# Altium footprint library CONN_HDR_2.54MM_ST.PcbLib: 159 footprints (part 12 of 13)
Each footprint in its own frame and in the unit in brackets; x right, y up, seen from the top. Pads: shape width x height; smd on the part's side, far side on the other; paste and mask are expansions set on the pad; w line width, h text height; cw(c..) or ccw(c..) is an arc to the next point about the centre after c.
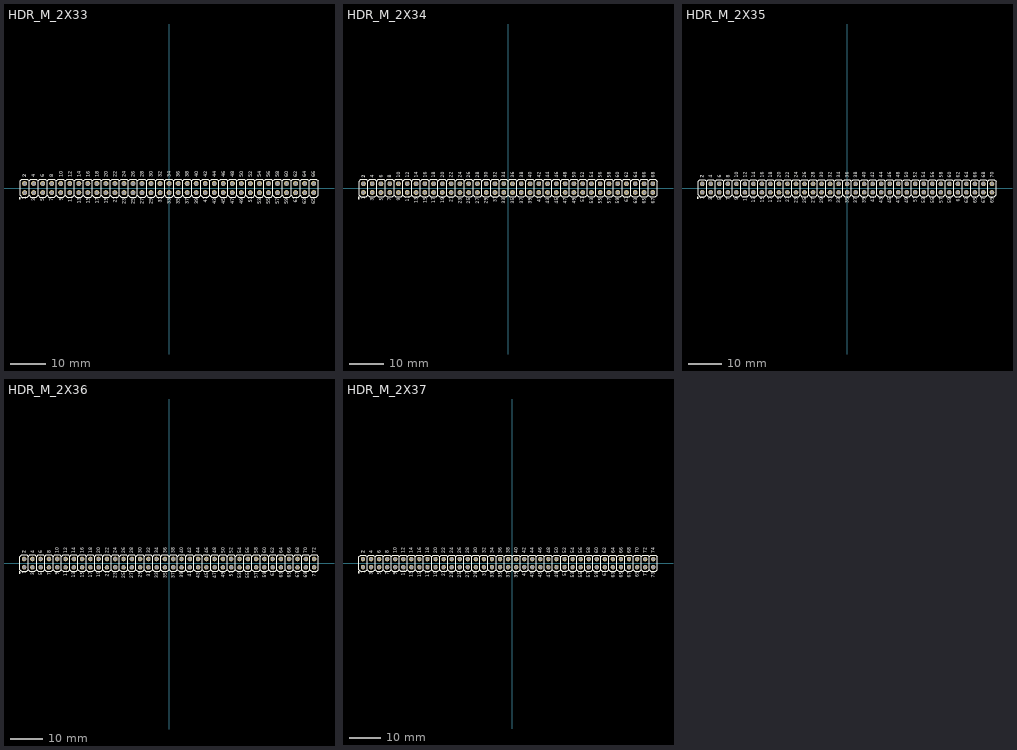
[diagram p11: the footprints below, top view; thin cyan lines are the x and y axes]

## HDR_M_2X33 [mm] "Male Header 2X33 with 2.54 mm Pitch"
pads (66):
  round 1.4 / inner round 1.4 / far side oval 1.4x2.2 hole 1: 1(-40.64,-1.27) 2(-40.64,1.27) 3(-38.1,-1.27) 4(-38.1,1.27) 5(-35.56,-1.27) 6(-35.56,1.27) 7(-33.02,-1.27) 8(-33.02,1.27) 9(-30.48,-1.27) 10(-30.48,1.27) 11(-27.94,-1.27) 12(-27.94,1.27) 13(-25.4,-1.27) 14(-25.4,1.27) 15(-22.86,-1.27) 16(-22.86,1.27) 17(-20.32,-1.27) 18(-20.32,1.27) 19(-17.78,-1.27) 20(-17.78,1.27) 21(-15.24,-1.27) 22(-15.24,1.27) 23(-12.7,-1.27) 24(-12.7,1.27) 25(-10.16,-1.27) 26(-10.16,1.27) 27(-7.62,-1.27) 28(-7.62,1.27) 29(-5.08,-1.27) 30(-5.08,1.27) 31(-2.54,-1.27) 32(-2.54,1.27) 33(0,-1.27) 34(0,1.27) 35(2.54,-1.27) 36(2.54,1.27) 37(5.08,-1.27) 38(5.08,1.27) 39(7.62,-1.27) 40(7.62,1.27) 41(10.16,-1.27) 42(10.16,1.27) 43(12.7,-1.27) 44(12.7,1.27) 45(15.24,-1.27) 46(15.24,1.27) 47(17.78,-1.27) 48(17.78,1.27) 49(20.32,-1.27) 50(20.32,1.27) 51(22.86,-1.27) 52(22.86,1.27) 53(25.4,-1.27) 54(25.4,1.27) 55(27.94,-1.27) 56(27.94,1.27) 57(30.48,-1.27) 58(30.48,1.27) 59(33.02,-1.27) 60(33.02,1.27) 61(35.56,-1.27) 62(35.56,1.27) 63(38.1,-1.27) 64(38.1,1.27) 65(40.64,-1.27) 66(40.64,1.27)
TopOverlay:
  drawing of 233 lines, arcs and shapes, not listed
  text "1" at -40.132,-3.253 h1
  text "2" at -40.132,3.048 h1
  text "2" at -40.132,3.048 h1
  text "1" at -40.132,-3.253 h1
  text "4" at -37.592,3.048 h1
  text "3" at -37.592,-3.682 h1
  text "6" at -35.052,3.048 h1
  text "5" at -35.052,-3.682 h1
  text "8" at -32.512,3.048 h1
  text "7" at -32.512,-3.682 h1
  text "10" at -29.972,3.048 h1
  text "9" at -29.972,-3.634 h1
  text "12" at -27.432,3.048 h1
  text "11" at -27.432,-3.986 h1
  text "14" at -24.892,3.048 h1
  text "13" at -24.892,-4.415 h1
  text "16" at -22.352,3.048 h1
  text "15" at -22.352,-4.415 h1
  text "18" at -19.812,3.048 h1
  text "17" at -19.812,-4.415 h1
  text "20" at -17.272,3.048 h1
  text "19" at -17.272,-4.367 h1
  text "22" at -14.732,3.048 h1
  text "21" at -14.732,-4.144 h1
  text "24" at -12.192,3.048 h1
  text "23" at -12.192,-4.572 h1
  text "26" at -9.652,3.048 h1
  text "25" at -9.652,-4.572 h1
  text "28" at -7.112,3.048 h1
  text "27" at -7.112,-4.572 h1
  text "30" at -4.572,3.048 h1
  text "29" at -4.572,-4.524 h1
  text "32" at -2.032,3.048 h1
  text "31" at -2.032,-4.144 h1
  text "34" at 0.508,3.048 h1
  text "33" at 0.508,-4.572 h1
  text "36" at 3.048,3.048 h1
  text "35" at 3.048,-4.572 h1
  text "38" at 5.588,3.048 h1
  text "37" at 5.588,-4.572 h1
  text "40" at 8.128,3.048 h1
  text "39" at 8.128,-4.524 h1
  text "42" at 10.668,3.048 h1
  text "41" at 10.668,-4.144 h1
  text "44" at 13.208,3.048 h1
  text "43" at 13.208,-4.572 h1
  text "46" at 15.748,3.048 h1
  text "45" at 15.748,-4.572 h1
  text "48" at 18.288,3.048 h1
  text "47" at 18.288,-4.572 h1
  text "50" at 20.828,3.048 h1
  text "49" at 20.828,-4.524 h1
  text "52" at 23.368,3.048 h1
  text "51" at 23.368,-4.144 h1
  text "54" at 25.908,3.048 h1
  text "53" at 25.908,-4.572 h1
  text "56" at 28.448,3.048 h1
  text "55" at 28.448,-4.572 h1
  text "58" at 30.988,3.048 h1
  text "57" at 30.988,-4.572 h1
  text "60" at 33.528,3.048 h1
  text "59" at 33.528,-4.524 h1
  text "62" at 36.068,3.048 h1
  text "61" at 36.068,-4.091 h1
  text "64" at 38.608,3.048 h1
  text "63" at 38.608,-4.52 h1
  text "66" at 41.148,3.048 h1
  text "65" at 41.148,-4.52 h1
3D body "PIN.STEP": height 8.43, standoff -2.49, extent -41.91,0 -39.37,2.54
3D body "PIN_mid.STEP": height 8.43, standoff -2.49, extent 39.37,-2.54 41.91,0
3D body "PIN_mid.STEP": height 8.43, standoff -2.49, extent 36.83,-2.54 39.37,0
3D body "PIN_mid.STEP": height 8.43, standoff -2.49, extent 34.29,-2.54 36.83,0
3D body "PIN_mid.STEP": height 8.43, standoff -2.49, extent 31.75,-2.54 34.29,0
3D body "PIN_mid.STEP": height 8.43, standoff -2.49, extent 29.21,-2.54 31.75,0
3D body "PIN_mid.STEP": height 8.43, standoff -2.49, extent 26.67,-2.54 29.21,0
3D body "PIN_mid.STEP": height 8.43, standoff -2.49, extent 24.13,-2.54 26.67,0
3D body "PIN_mid.STEP": height 8.43, standoff -2.49, extent 21.59,-2.54 24.13,0
3D body "PIN_mid.STEP": height 8.43, standoff -2.49, extent 19.05,-2.54 21.59,0
3D body "PIN_mid.STEP": height 8.43, standoff -2.49, extent 16.51,-2.54 19.05,0
3D body "PIN_mid.STEP": height 8.43, standoff -2.49, extent 13.97,-2.54 16.51,0
3D body "PIN_mid.STEP": height 8.43, standoff -2.49, extent 11.43,-2.54 13.97,0
3D body "PIN_mid.STEP": height 8.43, standoff -2.49, extent 8.89,-2.54 11.43,0
3D body "PIN_mid.STEP": height 8.43, standoff -2.49, extent 6.35,-2.54 8.89,0
3D body "PIN_mid.STEP": height 8.43, standoff -2.49, extent 3.81,-2.54 6.35,0
3D body "PIN_mid.STEP": height 8.43, standoff -2.49, extent 1.27,-2.54 3.81,0
3D body "PIN_mid.STEP": height 8.43, standoff -2.49, extent -1.27,-2.54 1.27,0
3D body "PIN_mid.STEP": height 8.43, standoff -2.49, extent -3.81,-2.54 -1.27,0
3D body "PIN_mid.STEP": height 8.43, standoff -2.49, extent -6.35,-2.54 -3.81,0
3D body "PIN_mid.STEP": height 8.43, standoff -2.49, extent -8.89,-2.54 -6.35,0
3D body "PIN_mid.STEP": height 8.43, standoff -2.49, extent -11.43,-2.54 -8.89,0
3D body "PIN_mid.STEP": height 8.43, standoff -2.49, extent -13.97,-2.54 -11.43,0
3D body "PIN_mid.STEP": height 8.43, standoff -2.49, extent -16.51,-2.54 -13.97,0
3D body "PIN_mid.STEP": height 8.43, standoff -2.49, extent -19.05,-2.54 -16.51,0
3D body "PIN_mid.STEP": height 8.43, standoff -2.49, extent -21.59,-2.54 -19.05,0
3D body "PIN_mid.STEP": height 8.43, standoff -2.49, extent -24.13,-2.54 -21.59,0
3D body "PIN_mid.STEP": height 8.43, standoff -2.49, extent -26.67,-2.54 -24.13,0
3D body "PIN_mid.STEP": height 8.43, standoff -2.49, extent -29.21,-2.54 -26.67,0
3D body "PIN_mid.STEP": height 8.43, standoff -2.49, extent -31.75,-2.54 -29.21,0
3D body "PIN_mid.STEP": height 8.43, standoff -2.49, extent -34.29,-2.54 -31.75,0
3D body "PIN_mid.STEP": height 8.43, standoff -2.49, extent -36.83,-2.54 -34.29,0
3D body "PIN_mid.STEP": height 8.43, standoff -2.49, extent -39.37,-2.54 -36.83,0
3D body "PIN_mid.STEP": height 8.43, standoff -2.49, extent -39.37,0 -36.83,2.54
3D body "PIN_mid.STEP": height 8.43, standoff -2.49, extent 39.37,0 41.91,2.54
3D body "PIN_mid.STEP": height 8.43, standoff -2.49, extent 36.83,0 39.37,2.54
3D body "PIN_mid.STEP": height 8.43, standoff -2.49, extent 34.29,0 36.83,2.54
3D body "PIN_mid.STEP": height 8.43, standoff -2.49, extent 31.75,0 34.29,2.54
3D body "PIN_mid.STEP": height 8.43, standoff -2.49, extent 29.21,0 31.75,2.54
3D body "PIN_mid.STEP": height 8.43, standoff -2.49, extent 26.67,0 29.21,2.54
3D body "PIN_mid.STEP": height 8.43, standoff -2.49, extent 24.13,0 26.67,2.54
3D body "PIN_mid.STEP": height 8.43, standoff -2.49, extent 21.59,0 24.13,2.54
3D body "PIN_mid.STEP": height 8.43, standoff -2.49, extent 19.05,0 21.59,2.54
3D body "PIN_mid.STEP": height 8.43, standoff -2.49, extent 16.51,0 19.05,2.54
3D body "PIN_mid.STEP": height 8.43, standoff -2.49, extent 13.97,0 16.51,2.54
3D body "PIN_mid.STEP": height 8.43, standoff -2.49, extent 11.43,0 13.97,2.54
3D body "PIN_mid.STEP": height 8.43, standoff -2.49, extent 8.89,0 11.43,2.54
3D body "PIN_mid.STEP": height 8.43, standoff -2.49, extent 6.35,0 8.89,2.54
3D body "PIN_mid.STEP": height 8.43, standoff -2.49, extent 3.81,0 6.35,2.54
3D body "PIN_mid.STEP": height 8.43, standoff -2.49, extent 1.27,0 3.81,2.54
3D body "PIN_mid.STEP": height 8.43, standoff -2.49, extent -1.27,0 1.27,2.54
3D body "PIN_mid.STEP": height 8.43, standoff -2.49, extent -3.81,0 -1.27,2.54
3D body "PIN_mid.STEP": height 8.43, standoff -2.49, extent -6.35,0 -3.81,2.54
3D body "PIN_mid.STEP": height 8.43, standoff -2.49, extent -8.89,0 -6.35,2.54
3D body "PIN_mid.STEP": height 8.43, standoff -2.49, extent -11.43,0 -8.89,2.54
3D body "PIN_mid.STEP": height 8.43, standoff -2.49, extent -13.97,0 -11.43,2.54
3D body "PIN_mid.STEP": height 8.43, standoff -2.49, extent -16.51,0 -13.97,2.54
3D body "PIN_mid.STEP": height 8.43, standoff -2.49, extent -19.05,0 -16.51,2.54
3D body "PIN_mid.STEP": height 8.43, standoff -2.49, extent -21.59,0 -19.05,2.54
3D body "PIN_mid.STEP": height 8.43, standoff -2.49, extent -24.13,0 -21.59,2.54
3D body "PIN_mid.STEP": height 8.43, standoff -2.49, extent -26.67,0 -24.13,2.54
3D body "PIN_mid.STEP": height 8.43, standoff -2.49, extent -29.21,0 -26.67,2.54
3D body "PIN_mid.STEP": height 8.43, standoff -2.49, extent -31.75,0 -29.21,2.54
3D body "PIN_mid.STEP": height 8.43, standoff -2.49, extent -34.29,0 -31.75,2.54
3D body "PIN_mid.STEP": height 8.43, standoff -2.49, extent -36.83,0 -34.29,2.54
3D body "PIN.STEP": height 8.43, standoff -2.49, extent -41.91,-2.54 -39.37,0

## HDR_M_2X34 [mm] "Male Header 2X34 with 2.54 mm Pitch"
pads (68):
  round 1.4 / inner round 1.4 / far side oval 1.4x2.2 hole 1: 1(-41.91,-1.27) 2(-41.91,1.27) 3(-39.37,-1.27) 4(-39.37,1.27) 5(-36.83,-1.27) 6(-36.83,1.27) 7(-34.29,-1.27) 8(-34.29,1.27) 9(-31.75,-1.27) 10(-31.75,1.27) 11(-29.21,-1.27) 12(-29.21,1.27) 13(-26.67,-1.27) 14(-26.67,1.27) 15(-24.13,-1.27) 16(-24.13,1.27) 17(-21.59,-1.27) 18(-21.59,1.27) 19(-19.05,-1.27) 20(-19.05,1.27) 21(-16.51,-1.27) 22(-16.51,1.27) 23(-13.97,-1.27) 24(-13.97,1.27) 25(-11.43,-1.27) 26(-11.43,1.27) 27(-8.89,-1.27) 28(-8.89,1.27) 29(-6.35,-1.27) 30(-6.35,1.27) 31(-3.81,-1.27) 32(-3.81,1.27) 33(-1.27,-1.27) 34(-1.27,1.27) 35(1.27,-1.27) 36(1.27,1.27) 37(3.81,-1.27) 38(3.81,1.27) 39(6.35,-1.27) 40(6.35,1.27) 41(8.89,-1.27) 42(8.89,1.27) 43(11.43,-1.27) 44(11.43,1.27) 45(13.97,-1.27) 46(13.97,1.27) 47(16.51,-1.27) 48(16.51,1.27) 49(19.05,-1.27) 50(19.05,1.27) 51(21.59,-1.27) 52(21.59,1.27) 53(24.13,-1.27) 54(24.13,1.27) 55(26.67,-1.27) 56(26.67,1.27) 57(29.21,-1.27) 58(29.21,1.27) 59(31.75,-1.27) 60(31.75,1.27) 61(34.29,-1.27) 62(34.29,1.27) 63(36.83,-1.27) 64(36.83,1.27) 65(39.37,-1.27) 66(39.37,1.27) 67(41.91,-1.27) 68(41.91,1.27)
TopOverlay:
  drawing of 240 lines, arcs and shapes, not listed
  text "1" at -41.402,-3.253 h1
  text "2" at -41.402,3.048 h1
  text "2" at -41.402,3.048 h1
  text "1" at -41.402,-3.253 h1
  text "4" at -38.862,3.048 h1
  text "3" at -38.862,-3.682 h1
  text "6" at -36.322,3.048 h1
  text "5" at -36.322,-3.682 h1
  text "8" at -33.782,3.048 h1
  text "7" at -33.782,-3.682 h1
  text "10" at -31.242,3.048 h1
  text "9" at -31.242,-3.634 h1
  text "12" at -28.702,3.048 h1
  text "11" at -28.702,-3.986 h1
  text "14" at -26.162,3.048 h1
  text "13" at -26.162,-4.415 h1
  text "16" at -23.622,3.048 h1
  text "15" at -23.622,-4.415 h1
  text "18" at -21.082,3.048 h1
  text "17" at -21.082,-4.415 h1
  text "20" at -18.542,3.048 h1
  text "19" at -18.542,-4.367 h1
  text "22" at -16.002,3.048 h1
  text "21" at -16.002,-4.144 h1
  text "24" at -13.462,3.048 h1
  text "23" at -13.462,-4.572 h1
  text "26" at -10.922,3.048 h1
  text "25" at -10.922,-4.572 h1
  text "28" at -8.382,3.048 h1
  text "27" at -8.382,-4.572 h1
  text "30" at -5.842,3.048 h1
  text "29" at -5.842,-4.524 h1
  text "32" at -3.302,3.048 h1
  text "31" at -3.302,-4.144 h1
  text "34" at -0.762,3.048 h1
  text "33" at -0.762,-4.572 h1
  text "36" at 1.778,3.048 h1
  text "35" at 1.778,-4.572 h1
  text "38" at 4.318,3.048 h1
  text "37" at 4.318,-4.572 h1
  text "40" at 6.858,3.048 h1
  text "39" at 6.858,-4.524 h1
  text "42" at 9.398,3.048 h1
  text "41" at 9.398,-4.144 h1
  text "44" at 11.938,3.048 h1
  text "43" at 11.938,-4.572 h1
  text "46" at 14.478,3.048 h1
  text "45" at 14.478,-4.572 h1
  text "48" at 17.018,3.048 h1
  text "47" at 17.018,-4.572 h1
  text "50" at 19.558,3.048 h1
  text "49" at 19.558,-4.524 h1
  text "52" at 22.098,3.048 h1
  text "51" at 22.098,-4.144 h1
  text "54" at 24.638,3.048 h1
  text "53" at 24.638,-4.572 h1
  text "56" at 27.178,3.048 h1
  text "55" at 27.178,-4.572 h1
  text "58" at 29.718,3.048 h1
  text "57" at 29.718,-4.572 h1
  text "60" at 32.258,3.048 h1
  text "59" at 32.258,-4.524 h1
  text "62" at 34.798,3.048 h1
  text "61" at 34.798,-4.091 h1
  text "64" at 37.338,3.048 h1
  text "63" at 37.338,-4.52 h1
  text "66" at 39.878,3.048 h1
  text "65" at 39.878,-4.52 h1
  text "68" at 42.418,3.048 h1
  text "67" at 42.418,-4.52 h1
3D body "PIN.STEP": height 8.43, standoff -2.49, extent 40.64,-2.54 43.18,0
3D body "PIN.STEP": height 8.43, standoff -2.49, extent 40.64,0 43.18,2.54
3D body "PIN.STEP": height 8.43, standoff -2.49, extent -43.18,0 -40.64,2.54
3D body "PIN_mid.STEP": height 8.43, standoff -2.49, extent 38.1,-2.54 40.64,0
3D body "PIN_mid.STEP": height 8.43, standoff -2.49, extent 35.56,-2.54 38.1,0
3D body "PIN_mid.STEP": height 8.43, standoff -2.49, extent 33.02,-2.54 35.56,0
3D body "PIN_mid.STEP": height 8.43, standoff -2.49, extent 30.48,-2.54 33.02,0
3D body "PIN_mid.STEP": height 8.43, standoff -2.49, extent 27.94,-2.54 30.48,0
3D body "PIN_mid.STEP": height 8.43, standoff -2.49, extent 25.4,-2.54 27.94,0
3D body "PIN_mid.STEP": height 8.43, standoff -2.49, extent 22.86,-2.54 25.4,0
3D body "PIN_mid.STEP": height 8.43, standoff -2.49, extent 20.32,-2.54 22.86,0
3D body "PIN_mid.STEP": height 8.43, standoff -2.49, extent 17.78,-2.54 20.32,0
3D body "PIN_mid.STEP": height 8.43, standoff -2.49, extent 15.24,-2.54 17.78,0
3D body "PIN_mid.STEP": height 8.43, standoff -2.49, extent 12.7,-2.54 15.24,0
3D body "PIN_mid.STEP": height 8.43, standoff -2.49, extent 10.16,-2.54 12.7,0
3D body "PIN_mid.STEP": height 8.43, standoff -2.49, extent 7.62,-2.54 10.16,0
3D body "PIN_mid.STEP": height 8.43, standoff -2.49, extent 5.08,-2.54 7.62,0
3D body "PIN_mid.STEP": height 8.43, standoff -2.49, extent 2.54,-2.54 5.08,0
3D body "PIN_mid.STEP": height 8.43, standoff -2.49, extent 0,-2.54 2.54,0
3D body "PIN_mid.STEP": height 8.43, standoff -2.49, extent -2.54,-2.54 0,0
3D body "PIN_mid.STEP": height 8.43, standoff -2.49, extent -5.08,-2.54 -2.54,0
3D body "PIN_mid.STEP": height 8.43, standoff -2.49, extent -7.62,-2.54 -5.08,0
3D body "PIN_mid.STEP": height 8.43, standoff -2.49, extent -10.16,-2.54 -7.62,0
3D body "PIN_mid.STEP": height 8.43, standoff -2.49, extent -12.7,-2.54 -10.16,0
3D body "PIN_mid.STEP": height 8.43, standoff -2.49, extent -15.24,-2.54 -12.7,0
3D body "PIN_mid.STEP": height 8.43, standoff -2.49, extent -17.78,-2.54 -15.24,0
3D body "PIN_mid.STEP": height 8.43, standoff -2.49, extent -20.32,-2.54 -17.78,0
3D body "PIN_mid.STEP": height 8.43, standoff -2.49, extent -22.86,-2.54 -20.32,0
3D body "PIN_mid.STEP": height 8.43, standoff -2.49, extent -25.4,-2.54 -22.86,0
3D body "PIN_mid.STEP": height 8.43, standoff -2.49, extent -27.94,-2.54 -25.4,0
3D body "PIN_mid.STEP": height 8.43, standoff -2.49, extent -30.48,-2.54 -27.94,0
3D body "PIN_mid.STEP": height 8.43, standoff -2.49, extent -33.02,-2.54 -30.48,0
3D body "PIN_mid.STEP": height 8.43, standoff -2.49, extent -35.56,-2.54 -33.02,0
3D body "PIN_mid.STEP": height 8.43, standoff -2.49, extent -38.1,-2.54 -35.56,0
3D body "PIN_mid.STEP": height 8.43, standoff -2.49, extent -40.64,-2.54 -38.1,0
3D body "PIN_mid.STEP": height 8.43, standoff -2.49, extent -40.64,0 -38.1,2.54
3D body "PIN_mid.STEP": height 8.43, standoff -2.49, extent 38.1,0 40.64,2.54
3D body "PIN_mid.STEP": height 8.43, standoff -2.49, extent 35.56,0 38.1,2.54
3D body "PIN_mid.STEP": height 8.43, standoff -2.49, extent 33.02,0 35.56,2.54
3D body "PIN_mid.STEP": height 8.43, standoff -2.49, extent 30.48,0 33.02,2.54
3D body "PIN_mid.STEP": height 8.43, standoff -2.49, extent 27.94,0 30.48,2.54
3D body "PIN_mid.STEP": height 8.43, standoff -2.49, extent 25.4,0 27.94,2.54
3D body "PIN_mid.STEP": height 8.43, standoff -2.49, extent 22.86,0 25.4,2.54
3D body "PIN_mid.STEP": height 8.43, standoff -2.49, extent 20.32,0 22.86,2.54
3D body "PIN_mid.STEP": height 8.43, standoff -2.49, extent 17.78,0 20.32,2.54
3D body "PIN_mid.STEP": height 8.43, standoff -2.49, extent 15.24,0 17.78,2.54
3D body "PIN_mid.STEP": height 8.43, standoff -2.49, extent 12.7,0 15.24,2.54
3D body "PIN_mid.STEP": height 8.43, standoff -2.49, extent 10.16,0 12.7,2.54
3D body "PIN_mid.STEP": height 8.43, standoff -2.49, extent 7.62,0 10.16,2.54
3D body "PIN_mid.STEP": height 8.43, standoff -2.49, extent 5.08,0 7.62,2.54
3D body "PIN_mid.STEP": height 8.43, standoff -2.49, extent 2.54,0 5.08,2.54
3D body "PIN_mid.STEP": height 8.43, standoff -2.49, extent 0,0 2.54,2.54
3D body "PIN_mid.STEP": height 8.43, standoff -2.49, extent -2.54,0 0,2.54
3D body "PIN_mid.STEP": height 8.43, standoff -2.49, extent -5.08,0 -2.54,2.54
3D body "PIN_mid.STEP": height 8.43, standoff -2.49, extent -7.62,0 -5.08,2.54
3D body "PIN_mid.STEP": height 8.43, standoff -2.49, extent -10.16,0 -7.62,2.54
3D body "PIN_mid.STEP": height 8.43, standoff -2.49, extent -12.7,0 -10.16,2.54
3D body "PIN_mid.STEP": height 8.43, standoff -2.49, extent -15.24,0 -12.7,2.54
3D body "PIN_mid.STEP": height 8.43, standoff -2.49, extent -17.78,0 -15.24,2.54
3D body "PIN_mid.STEP": height 8.43, standoff -2.49, extent -20.32,0 -17.78,2.54
3D body "PIN_mid.STEP": height 8.43, standoff -2.49, extent -22.86,0 -20.32,2.54
3D body "PIN_mid.STEP": height 8.43, standoff -2.49, extent -25.4,0 -22.86,2.54
3D body "PIN_mid.STEP": height 8.43, standoff -2.49, extent -27.94,0 -25.4,2.54
3D body "PIN_mid.STEP": height 8.43, standoff -2.49, extent -30.48,0 -27.94,2.54
3D body "PIN_mid.STEP": height 8.43, standoff -2.49, extent -33.02,0 -30.48,2.54
3D body "PIN_mid.STEP": height 8.43, standoff -2.49, extent -35.56,0 -33.02,2.54
3D body "PIN_mid.STEP": height 8.43, standoff -2.49, extent -38.1,0 -35.56,2.54
3D body "PIN.STEP": height 8.43, standoff -2.49, extent -43.18,-2.54 -40.64,0

## HDR_M_2X35 [mm] "Male Header 2X35 with 2.54 mm Pitch"
pads (70):
  round 1.4 / inner round 1.4 / far side oval 1.4x2.2 hole 1: 1(-43.18,-1.27) 2(-43.18,1.27) 3(-40.64,-1.27) 4(-40.64,1.27) 5(-38.1,-1.27) 6(-38.1,1.27) 7(-35.56,-1.27) 8(-35.56,1.27) 9(-33.02,-1.27) 10(-33.02,1.27) 11(-30.48,-1.27) 12(-30.48,1.27) 13(-27.94,-1.27) 14(-27.94,1.27) 15(-25.4,-1.27) 16(-25.4,1.27) 17(-22.86,-1.27) 18(-22.86,1.27) 19(-20.32,-1.27) 20(-20.32,1.27) 21(-17.78,-1.27) 22(-17.78,1.27) 23(-15.24,-1.27) 24(-15.24,1.27) 25(-12.7,-1.27) 26(-12.7,1.27) 27(-10.16,-1.27) 28(-10.16,1.27) 29(-7.62,-1.27) 30(-7.62,1.27) 31(-5.08,-1.27) 32(-5.08,1.27) 33(-2.54,-1.27) 34(-2.54,1.27) 35(0,-1.27) 36(0,1.27) 37(2.54,-1.27) 38(2.54,1.27) 39(5.08,-1.27) 40(5.08,1.27) 41(7.62,-1.27) 42(7.62,1.27) 43(10.16,-1.27) 44(10.16,1.27) 45(12.7,-1.27) 46(12.7,1.27) 47(15.24,-1.27) 48(15.24,1.27) 49(17.78,-1.27) 50(17.78,1.27) 51(20.32,-1.27) 52(20.32,1.27) 53(22.86,-1.27) 54(22.86,1.27) 55(25.4,-1.27) 56(25.4,1.27) 57(27.94,-1.27) 58(27.94,1.27) 59(30.48,-1.27) 60(30.48,1.27) 61(33.02,-1.27) 62(33.02,1.27) 63(35.56,-1.27) 64(35.56,1.27) 65(38.1,-1.27) 66(38.1,1.27) 67(40.64,-1.27) 68(40.64,1.27) 69(43.18,-1.27) 70(43.18,1.27)
TopOverlay:
  drawing of 247 lines, arcs and shapes, not listed
  text "69" at 43.688,-4.472 h1
  text "70" at 43.688,3.048 h1
  text "67" at 41.148,-4.52 h1
  text "68" at 41.148,3.048 h1
  text "65" at 38.608,-4.52 h1
  text "66" at 38.608,3.048 h1
  text "63" at 36.068,-4.52 h1
  text "64" at 36.068,3.048 h1
  text "61" at 33.528,-4.091 h1
  text "62" at 33.528,3.048 h1
  text "59" at 30.988,-4.524 h1
  text "60" at 30.988,3.048 h1
  text "57" at 28.448,-4.572 h1
  text "58" at 28.448,3.048 h1
  text "55" at 25.908,-4.572 h1
  text "56" at 25.908,3.048 h1
  text "53" at 23.368,-4.572 h1
  text "54" at 23.368,3.048 h1
  text "51" at 20.828,-4.144 h1
  text "52" at 20.828,3.048 h1
  text "49" at 18.288,-4.524 h1
  text "50" at 18.288,3.048 h1
  text "47" at 15.748,-4.572 h1
  text "48" at 15.748,3.048 h1
  text "45" at 13.208,-4.572 h1
  text "46" at 13.208,3.048 h1
  text "43" at 10.668,-4.572 h1
  text "44" at 10.668,3.048 h1
  text "41" at 8.128,-4.144 h1
  text "42" at 8.128,3.048 h1
  text "39" at 5.588,-4.524 h1
  text "40" at 5.588,3.048 h1
  text "37" at 3.048,-4.572 h1
  text "38" at 3.048,3.048 h1
  text "35" at 0.508,-4.572 h1
  text "36" at 0.508,3.048 h1
  text "33" at -2.032,-4.572 h1
  text "34" at -2.032,3.048 h1
  text "31" at -4.572,-4.144 h1
  text "32" at -4.572,3.048 h1
  text "29" at -7.112,-4.524 h1
  text "30" at -7.112,3.048 h1
  text "27" at -9.652,-4.572 h1
  text "28" at -9.652,3.048 h1
  text "25" at -12.192,-4.572 h1
  text "26" at -12.192,3.048 h1
  text "23" at -14.732,-4.572 h1
  text "24" at -14.732,3.048 h1
  text "21" at -17.272,-4.144 h1
  text "22" at -17.272,3.048 h1
  text "19" at -19.812,-4.367 h1
  text "20" at -19.812,3.048 h1
  text "17" at -22.352,-4.415 h1
  text "18" at -22.352,3.048 h1
  text "15" at -24.892,-4.415 h1
  text "16" at -24.892,3.048 h1
  text "13" at -27.432,-4.415 h1
  text "14" at -27.432,3.048 h1
  text "11" at -29.972,-3.986 h1
  text "12" at -29.972,3.048 h1
  text "9" at -32.512,-3.634 h1
  text "10" at -32.512,3.048 h1
  text "7" at -35.052,-3.682 h1
  text "8" at -35.052,3.048 h1
  text "5" at -37.592,-3.682 h1
  text "6" at -37.592,3.048 h1
  text "3" at -40.132,-3.682 h1
  text "4" at -40.132,3.048 h1
  text "1" at -42.672,-3.253 h1
  text "2" at -42.672,3.048 h1
  text "2" at -42.672,3.048 h1
  text "1" at -42.672,-3.253 h1
3D body "PIN.STEP": height 8.43, standoff -2.49, extent -44.45,-2.54 -41.91,0
3D body "PIN_mid.STEP": height 8.43, standoff -2.49, extent -39.37,0 -36.83,2.54
3D body "PIN_mid.STEP": height 8.43, standoff -2.49, extent -36.83,0 -34.29,2.54
3D body "PIN_mid.STEP": height 8.43, standoff -2.49, extent -34.29,0 -31.75,2.54
3D body "PIN_mid.STEP": height 8.43, standoff -2.49, extent -31.75,0 -29.21,2.54
3D body "PIN_mid.STEP": height 8.43, standoff -2.49, extent -29.21,0 -26.67,2.54
3D body "PIN_mid.STEP": height 8.43, standoff -2.49, extent -26.67,0 -24.13,2.54
3D body "PIN_mid.STEP": height 8.43, standoff -2.49, extent -24.13,0 -21.59,2.54
3D body "PIN_mid.STEP": height 8.43, standoff -2.49, extent -21.59,0 -19.05,2.54
3D body "PIN_mid.STEP": height 8.43, standoff -2.49, extent -19.05,0 -16.51,2.54
3D body "PIN_mid.STEP": height 8.43, standoff -2.49, extent -16.51,0 -13.97,2.54
3D body "PIN_mid.STEP": height 8.43, standoff -2.49, extent -13.97,0 -11.43,2.54
3D body "PIN_mid.STEP": height 8.43, standoff -2.49, extent -11.43,0 -8.89,2.54
3D body "PIN_mid.STEP": height 8.43, standoff -2.49, extent -8.89,0 -6.35,2.54
3D body "PIN_mid.STEP": height 8.43, standoff -2.49, extent -6.35,0 -3.81,2.54
3D body "PIN_mid.STEP": height 8.43, standoff -2.49, extent -3.81,0 -1.27,2.54
3D body "PIN_mid.STEP": height 8.43, standoff -2.49, extent -1.27,0 1.27,2.54
3D body "PIN_mid.STEP": height 8.43, standoff -2.49, extent 1.27,0 3.81,2.54
3D body "PIN_mid.STEP": height 8.43, standoff -2.49, extent 3.81,0 6.35,2.54
3D body "PIN_mid.STEP": height 8.43, standoff -2.49, extent 6.35,0 8.89,2.54
3D body "PIN_mid.STEP": height 8.43, standoff -2.49, extent 8.89,0 11.43,2.54
3D body "PIN_mid.STEP": height 8.43, standoff -2.49, extent 11.43,0 13.97,2.54
3D body "PIN_mid.STEP": height 8.43, standoff -2.49, extent 13.97,0 16.51,2.54
3D body "PIN_mid.STEP": height 8.43, standoff -2.49, extent 16.51,0 19.05,2.54
3D body "PIN_mid.STEP": height 8.43, standoff -2.49, extent 19.05,0 21.59,2.54
3D body "PIN_mid.STEP": height 8.43, standoff -2.49, extent 21.59,0 24.13,2.54
3D body "PIN_mid.STEP": height 8.43, standoff -2.49, extent 24.13,0 26.67,2.54
3D body "PIN_mid.STEP": height 8.43, standoff -2.49, extent 26.67,0 29.21,2.54
3D body "PIN_mid.STEP": height 8.43, standoff -2.49, extent 29.21,0 31.75,2.54
3D body "PIN_mid.STEP": height 8.43, standoff -2.49, extent 31.75,0 34.29,2.54
3D body "PIN_mid.STEP": height 8.43, standoff -2.49, extent 34.29,0 36.83,2.54
3D body "PIN_mid.STEP": height 8.43, standoff -2.49, extent 36.83,0 39.37,2.54
3D body "PIN_mid.STEP": height 8.43, standoff -2.49, extent 39.37,0 41.91,2.54
3D body "PIN_mid.STEP": height 8.43, standoff -2.49, extent -41.91,0 -39.37,2.54
3D body "PIN_mid.STEP": height 8.43, standoff -2.49, extent -41.91,-2.54 -39.37,0
3D body "PIN_mid.STEP": height 8.43, standoff -2.49, extent -39.37,-2.54 -36.83,0
3D body "PIN_mid.STEP": height 8.43, standoff -2.49, extent -36.83,-2.54 -34.29,0
3D body "PIN_mid.STEP": height 8.43, standoff -2.49, extent -34.29,-2.54 -31.75,0
3D body "PIN_mid.STEP": height 8.43, standoff -2.49, extent -31.75,-2.54 -29.21,0
3D body "PIN_mid.STEP": height 8.43, standoff -2.49, extent -29.21,-2.54 -26.67,0
3D body "PIN_mid.STEP": height 8.43, standoff -2.49, extent -26.67,-2.54 -24.13,0
3D body "PIN_mid.STEP": height 8.43, standoff -2.49, extent -24.13,-2.54 -21.59,0
3D body "PIN_mid.STEP": height 8.43, standoff -2.49, extent -21.59,-2.54 -19.05,0
3D body "PIN_mid.STEP": height 8.43, standoff -2.49, extent -19.05,-2.54 -16.51,0
3D body "PIN_mid.STEP": height 8.43, standoff -2.49, extent -16.51,-2.54 -13.97,0
3D body "PIN_mid.STEP": height 8.43, standoff -2.49, extent -13.97,-2.54 -11.43,0
3D body "PIN_mid.STEP": height 8.43, standoff -2.49, extent -11.43,-2.54 -8.89,0
3D body "PIN_mid.STEP": height 8.43, standoff -2.49, extent -8.89,-2.54 -6.35,0
3D body "PIN_mid.STEP": height 8.43, standoff -2.49, extent -6.35,-2.54 -3.81,0
3D body "PIN_mid.STEP": height 8.43, standoff -2.49, extent -3.81,-2.54 -1.27,0
3D body "PIN_mid.STEP": height 8.43, standoff -2.49, extent -1.27,-2.54 1.27,0
3D body "PIN_mid.STEP": height 8.43, standoff -2.49, extent 1.27,-2.54 3.81,0
3D body "PIN_mid.STEP": height 8.43, standoff -2.49, extent 3.81,-2.54 6.35,0
3D body "PIN_mid.STEP": height 8.43, standoff -2.49, extent 6.35,-2.54 8.89,0
3D body "PIN_mid.STEP": height 8.43, standoff -2.49, extent 8.89,-2.54 11.43,0
3D body "PIN_mid.STEP": height 8.43, standoff -2.49, extent 11.43,-2.54 13.97,0
3D body "PIN_mid.STEP": height 8.43, standoff -2.49, extent 13.97,-2.54 16.51,0
3D body "PIN_mid.STEP": height 8.43, standoff -2.49, extent 16.51,-2.54 19.05,0
3D body "PIN_mid.STEP": height 8.43, standoff -2.49, extent 19.05,-2.54 21.59,0
3D body "PIN_mid.STEP": height 8.43, standoff -2.49, extent 21.59,-2.54 24.13,0
3D body "PIN_mid.STEP": height 8.43, standoff -2.49, extent 24.13,-2.54 26.67,0
3D body "PIN_mid.STEP": height 8.43, standoff -2.49, extent 26.67,-2.54 29.21,0
3D body "PIN_mid.STEP": height 8.43, standoff -2.49, extent 29.21,-2.54 31.75,0
3D body "PIN_mid.STEP": height 8.43, standoff -2.49, extent 31.75,-2.54 34.29,0
3D body "PIN_mid.STEP": height 8.43, standoff -2.49, extent 34.29,-2.54 36.83,0
3D body "PIN_mid.STEP": height 8.43, standoff -2.49, extent 36.83,-2.54 39.37,0
3D body "PIN_mid.STEP": height 8.43, standoff -2.49, extent 39.37,-2.54 41.91,0
3D body "PIN.STEP": height 8.43, standoff -2.49, extent -44.45,0 -41.91,2.54
3D body "PIN.STEP": height 8.43, standoff -2.49, extent 41.91,0 44.45,2.54
3D body "PIN.STEP": height 8.43, standoff -2.49, extent 41.91,-2.54 44.45,0

## HDR_M_2X36 [mm] "Male Header 2X36 with 2.54 mm Pitch"
pads (72):
  round 1.4 / inner round 1.4 / far side oval 1.4x2.2 hole 1: 1(-44.45,-1.27) 2(-44.45,1.27) 3(-41.91,-1.27) 4(-41.91,1.27) 5(-39.37,-1.27) 6(-39.37,1.27) 7(-36.83,-1.27) 8(-36.83,1.27) 9(-34.29,-1.27) 10(-34.29,1.27) 11(-31.75,-1.27) 12(-31.75,1.27) 13(-29.21,-1.27) 14(-29.21,1.27) 15(-26.67,-1.27) 16(-26.67,1.27) 17(-24.13,-1.27) 18(-24.13,1.27) 19(-21.59,-1.27) 20(-21.59,1.27) 21(-19.05,-1.27) 22(-19.05,1.27) 23(-16.51,-1.27) 24(-16.51,1.27) 25(-13.97,-1.27) 26(-13.97,1.27) 27(-11.43,-1.27) 28(-11.43,1.27) 29(-8.89,-1.27) 30(-8.89,1.27) 31(-6.35,-1.27) 32(-6.35,1.27) 33(-3.81,-1.27) 34(-3.81,1.27) 35(-1.27,-1.27) 36(-1.27,1.27) 37(1.27,-1.27) 38(1.27,1.27) 39(3.81,-1.27) 40(3.81,1.27) 41(6.35,-1.27) 42(6.35,1.27) 43(8.89,-1.27) 44(8.89,1.27) 45(11.43,-1.27) 46(11.43,1.27) 47(13.97,-1.27) 48(13.97,1.27) 49(16.51,-1.27) 50(16.51,1.27) 51(19.05,-1.27) 52(19.05,1.27) 53(21.59,-1.27) 54(21.59,1.27) 55(24.13,-1.27) 56(24.13,1.27) 57(26.67,-1.27) 58(26.67,1.27) 59(29.21,-1.27) 60(29.21,1.27) 61(31.75,-1.27) 62(31.75,1.27) 63(34.29,-1.27) 64(34.29,1.27) 65(36.83,-1.27) 66(36.83,1.27) 67(39.37,-1.27) 68(39.37,1.27) 69(41.91,-1.27) 70(41.91,1.27) 71(44.45,-1.27) 72(44.45,1.27)
TopOverlay:
  drawing of 254 lines, arcs and shapes, not listed
  text "71" at 44.958,-4.144 h1
  text "72" at 44.958,3.048 h1
  text "69" at 42.418,-4.472 h1
  text "70" at 42.418,3.048 h1
  text "67" at 39.878,-4.52 h1
  text "68" at 39.878,3.048 h1
  text "65" at 37.338,-4.52 h1
  text "66" at 37.338,3.048 h1
  text "63" at 34.798,-4.52 h1
  text "64" at 34.798,3.048 h1
  text "61" at 32.258,-4.091 h1
  text "62" at 32.258,3.048 h1
  text "59" at 29.718,-4.524 h1
  text "60" at 29.718,3.048 h1
  text "57" at 27.178,-4.572 h1
  text "58" at 27.178,3.048 h1
  text "55" at 24.638,-4.572 h1
  text "56" at 24.638,3.048 h1
  text "53" at 22.098,-4.572 h1
  text "54" at 22.098,3.048 h1
  text "51" at 19.558,-4.144 h1
  text "52" at 19.558,3.048 h1
  text "49" at 17.018,-4.524 h1
  text "50" at 17.018,3.048 h1
  text "47" at 14.478,-4.572 h1
  text "48" at 14.478,3.048 h1
  text "45" at 11.938,-4.572 h1
  text "46" at 11.938,3.048 h1
  text "43" at 9.398,-4.572 h1
  text "44" at 9.398,3.048 h1
  text "41" at 6.858,-4.144 h1
  text "42" at 6.858,3.048 h1
  text "39" at 4.318,-4.524 h1
  text "40" at 4.318,3.048 h1
  text "37" at 1.778,-4.572 h1
  text "38" at 1.778,3.048 h1
  text "35" at -0.762,-4.572 h1
  text "36" at -0.762,3.048 h1
  text "33" at -3.302,-4.572 h1
  text "34" at -3.302,3.048 h1
  text "31" at -5.842,-4.144 h1
  text "32" at -5.842,3.048 h1
  text "29" at -8.382,-4.524 h1
  text "30" at -8.382,3.048 h1
  text "27" at -10.922,-4.572 h1
  text "28" at -10.922,3.048 h1
  text "25" at -13.462,-4.572 h1
  text "26" at -13.462,3.048 h1
  text "23" at -16.002,-4.572 h1
  text "24" at -16.002,3.048 h1
  text "21" at -18.542,-4.144 h1
  text "22" at -18.542,3.048 h1
  text "19" at -21.082,-4.367 h1
  text "20" at -21.082,3.048 h1
  text "17" at -23.622,-4.415 h1
  text "18" at -23.622,3.048 h1
  text "15" at -26.162,-4.415 h1
  text "16" at -26.162,3.048 h1
  text "13" at -28.702,-4.415 h1
  text "14" at -28.702,3.048 h1
  text "11" at -31.242,-3.986 h1
  text "12" at -31.242,3.048 h1
  text "9" at -33.782,-3.634 h1
  text "10" at -33.782,3.048 h1
  text "7" at -36.322,-3.682 h1
  text "8" at -36.322,3.048 h1
  text "5" at -38.862,-3.682 h1
  text "6" at -38.862,3.048 h1
  text "3" at -41.402,-3.682 h1
  text "4" at -41.402,3.048 h1
  text "1" at -43.942,-3.253 h1
  text "2" at -43.942,3.048 h1
  text "2" at -43.942,3.048 h1
  text "1" at -43.942,-3.253 h1
3D body "PIN.STEP": height 8.43, standoff -2.49, extent -45.72,-2.54 -43.18,0
3D body "PIN_mid.STEP": height 8.43, standoff -2.49, extent -40.64,0 -38.1,2.54
3D body "PIN_mid.STEP": height 8.43, standoff -2.49, extent -38.1,0 -35.56,2.54
3D body "PIN_mid.STEP": height 8.43, standoff -2.49, extent -35.56,0 -33.02,2.54
3D body "PIN_mid.STEP": height 8.43, standoff -2.49, extent -33.02,0 -30.48,2.54
3D body "PIN_mid.STEP": height 8.43, standoff -2.49, extent -30.48,0 -27.94,2.54
3D body "PIN_mid.STEP": height 8.43, standoff -2.49, extent -27.94,0 -25.4,2.54
3D body "PIN_mid.STEP": height 8.43, standoff -2.49, extent -25.4,0 -22.86,2.54
3D body "PIN_mid.STEP": height 8.43, standoff -2.49, extent -22.86,0 -20.32,2.54
3D body "PIN_mid.STEP": height 8.43, standoff -2.49, extent -20.32,0 -17.78,2.54
3D body "PIN_mid.STEP": height 8.43, standoff -2.49, extent -17.78,0 -15.24,2.54
3D body "PIN_mid.STEP": height 8.43, standoff -2.49, extent -15.24,0 -12.7,2.54
3D body "PIN_mid.STEP": height 8.43, standoff -2.49, extent -12.7,0 -10.16,2.54
3D body "PIN_mid.STEP": height 8.43, standoff -2.49, extent -10.16,0 -7.62,2.54
3D body "PIN_mid.STEP": height 8.43, standoff -2.49, extent -7.62,0 -5.08,2.54
3D body "PIN_mid.STEP": height 8.43, standoff -2.49, extent -5.08,0 -2.54,2.54
3D body "PIN_mid.STEP": height 8.43, standoff -2.49, extent -2.54,0 0,2.54
3D body "PIN_mid.STEP": height 8.43, standoff -2.49, extent 0,0 2.54,2.54
3D body "PIN_mid.STEP": height 8.43, standoff -2.49, extent 2.54,0 5.08,2.54
3D body "PIN_mid.STEP": height 8.43, standoff -2.49, extent 5.08,0 7.62,2.54
3D body "PIN_mid.STEP": height 8.43, standoff -2.49, extent 7.62,0 10.16,2.54
3D body "PIN_mid.STEP": height 8.43, standoff -2.49, extent 10.16,0 12.7,2.54
3D body "PIN_mid.STEP": height 8.43, standoff -2.49, extent 12.7,0 15.24,2.54
3D body "PIN_mid.STEP": height 8.43, standoff -2.49, extent 15.24,0 17.78,2.54
3D body "PIN_mid.STEP": height 8.43, standoff -2.49, extent 17.78,0 20.32,2.54
3D body "PIN_mid.STEP": height 8.43, standoff -2.49, extent 20.32,0 22.86,2.54
3D body "PIN_mid.STEP": height 8.43, standoff -2.49, extent 22.86,0 25.4,2.54
3D body "PIN_mid.STEP": height 8.43, standoff -2.49, extent 25.4,0 27.94,2.54
3D body "PIN_mid.STEP": height 8.43, standoff -2.49, extent 27.94,0 30.48,2.54
3D body "PIN_mid.STEP": height 8.43, standoff -2.49, extent 30.48,0 33.02,2.54
3D body "PIN_mid.STEP": height 8.43, standoff -2.49, extent 33.02,0 35.56,2.54
3D body "PIN_mid.STEP": height 8.43, standoff -2.49, extent 35.56,0 38.1,2.54
3D body "PIN_mid.STEP": height 8.43, standoff -2.49, extent 38.1,0 40.64,2.54
3D body "PIN_mid.STEP": height 8.43, standoff -2.49, extent 40.64,0 43.18,2.54
3D body "PIN_mid.STEP": height 8.43, standoff -2.49, extent -43.18,0 -40.64,2.54
3D body "PIN_mid.STEP": height 8.43, standoff -2.49, extent -43.18,-2.54 -40.64,0
3D body "PIN_mid.STEP": height 8.43, standoff -2.49, extent -40.64,-2.54 -38.1,0
3D body "PIN_mid.STEP": height 8.43, standoff -2.49, extent -38.1,-2.54 -35.56,0
3D body "PIN_mid.STEP": height 8.43, standoff -2.49, extent -35.56,-2.54 -33.02,0
3D body "PIN_mid.STEP": height 8.43, standoff -2.49, extent -33.02,-2.54 -30.48,0
3D body "PIN_mid.STEP": height 8.43, standoff -2.49, extent -30.48,-2.54 -27.94,0
3D body "PIN_mid.STEP": height 8.43, standoff -2.49, extent -27.94,-2.54 -25.4,0
3D body "PIN_mid.STEP": height 8.43, standoff -2.49, extent -25.4,-2.54 -22.86,0
3D body "PIN_mid.STEP": height 8.43, standoff -2.49, extent -22.86,-2.54 -20.32,0
3D body "PIN_mid.STEP": height 8.43, standoff -2.49, extent -20.32,-2.54 -17.78,0
3D body "PIN_mid.STEP": height 8.43, standoff -2.49, extent -17.78,-2.54 -15.24,0
3D body "PIN_mid.STEP": height 8.43, standoff -2.49, extent -15.24,-2.54 -12.7,0
3D body "PIN_mid.STEP": height 8.43, standoff -2.49, extent -12.7,-2.54 -10.16,0
3D body "PIN_mid.STEP": height 8.43, standoff -2.49, extent -10.16,-2.54 -7.62,0
3D body "PIN_mid.STEP": height 8.43, standoff -2.49, extent -7.62,-2.54 -5.08,0
3D body "PIN_mid.STEP": height 8.43, standoff -2.49, extent -5.08,-2.54 -2.54,0
3D body "PIN_mid.STEP": height 8.43, standoff -2.49, extent -2.54,-2.54 0,0
3D body "PIN_mid.STEP": height 8.43, standoff -2.49, extent 0,-2.54 2.54,0
3D body "PIN_mid.STEP": height 8.43, standoff -2.49, extent 2.54,-2.54 5.08,0
3D body "PIN_mid.STEP": height 8.43, standoff -2.49, extent 5.08,-2.54 7.62,0
3D body "PIN_mid.STEP": height 8.43, standoff -2.49, extent 7.62,-2.54 10.16,0
3D body "PIN_mid.STEP": height 8.43, standoff -2.49, extent 10.16,-2.54 12.7,0
3D body "PIN_mid.STEP": height 8.43, standoff -2.49, extent 12.7,-2.54 15.24,0
3D body "PIN_mid.STEP": height 8.43, standoff -2.49, extent 15.24,-2.54 17.78,0
3D body "PIN_mid.STEP": height 8.43, standoff -2.49, extent 17.78,-2.54 20.32,0
3D body "PIN_mid.STEP": height 8.43, standoff -2.49, extent 20.32,-2.54 22.86,0
3D body "PIN_mid.STEP": height 8.43, standoff -2.49, extent 22.86,-2.54 25.4,0
3D body "PIN_mid.STEP": height 8.43, standoff -2.49, extent 25.4,-2.54 27.94,0
3D body "PIN_mid.STEP": height 8.43, standoff -2.49, extent 27.94,-2.54 30.48,0
3D body "PIN_mid.STEP": height 8.43, standoff -2.49, extent 30.48,-2.54 33.02,0
3D body "PIN_mid.STEP": height 8.43, standoff -2.49, extent 33.02,-2.54 35.56,0
3D body "PIN_mid.STEP": height 8.43, standoff -2.49, extent 35.56,-2.54 38.1,0
3D body "PIN_mid.STEP": height 8.43, standoff -2.49, extent 38.1,-2.54 40.64,0
3D body "PIN_mid.STEP": height 8.43, standoff -2.49, extent 40.64,-2.54 43.18,0
3D body "PIN.STEP": height 8.43, standoff -2.49, extent -45.72,0 -43.18,2.54
3D body "PIN.STEP": height 8.43, standoff -2.49, extent 43.18,0 45.72,2.54
3D body "PIN.STEP": height 8.43, standoff -2.49, extent 43.18,-2.54 45.72,0

## HDR_M_2X37 [mm] "Male Header with 2.54 mm Pitch"
pads (74):
  round 1.4 / inner round 1.4 / far side oval 1.4x2.2 hole 1: 1(-46.99,-1.27) 2(-46.99,1.27) 3(-44.45,-1.27) 4(-44.45,1.27) 5(-41.91,-1.27) 6(-41.91,1.27) 7(-39.37,-1.27) 8(-39.37,1.27) 9(-36.83,-1.27) 10(-36.83,1.27) 11(-34.29,-1.27) 12(-34.29,1.27) 13(-31.75,-1.27) 14(-31.75,1.27) 15(-29.21,-1.27) 16(-29.21,1.27) 17(-26.67,-1.27) 18(-26.67,1.27) 19(-24.13,-1.27) 20(-24.13,1.27) 21(-21.59,-1.27) 22(-21.59,1.27) 23(-19.05,-1.27) 24(-19.05,1.27) 25(-16.51,-1.27) 26(-16.51,1.27) 27(-13.97,-1.27) 28(-13.97,1.27) 29(-11.43,-1.27) 30(-11.43,1.27) 31(-8.89,-1.27) 32(-8.89,1.27) 33(-6.35,-1.27) 34(-6.35,1.27) 35(-3.81,-1.27) 36(-3.81,1.27) 37(-1.27,-1.27) 38(-1.27,1.27) 39(1.27,-1.27) 40(1.27,1.27) 41(3.81,-1.27) 42(3.81,1.27) 43(6.35,-1.27) 44(6.35,1.27) 45(8.89,-1.27) 46(8.89,1.27) 47(11.43,-1.27) 48(11.43,1.27) 49(13.97,-1.27) 50(13.97,1.27) 51(16.51,-1.27) 52(16.51,1.27) 53(19.05,-1.27) 54(19.05,1.27) 55(21.59,-1.27) 56(21.59,1.27) 57(24.13,-1.27) 58(24.13,1.27) 59(26.67,-1.27) 60(26.67,1.27) 61(29.21,-1.27) 62(29.21,1.27) 63(31.75,-1.27) 64(31.75,1.27) 65(34.29,-1.27) 66(34.29,1.27) 67(36.83,-1.27) 68(36.83,1.27) 69(39.37,-1.27) 70(39.37,1.27) 71(41.91,-1.27) 72(41.91,1.27) 73(44.45,-1.27) 74(44.45,1.27)
TopOverlay:
  drawing of 261 lines, arcs and shapes, not listed
  text "73" at 44.958,-4.572 h1
  text "74" at 44.958,3.048 h1
  text "71" at 42.418,-4.144 h1
  text "72" at 42.418,3.048 h1
  text "69" at 39.878,-4.472 h1
  text "70" at 39.878,3.048 h1
  text "67" at 37.338,-4.52 h1
  text "68" at 37.338,3.048 h1
  text "65" at 34.798,-4.52 h1
  text "66" at 34.798,3.048 h1
  text "63" at 32.258,-4.52 h1
  text "64" at 32.258,3.048 h1
  text "61" at 29.718,-4.091 h1
  text "62" at 29.718,3.048 h1
  text "59" at 27.178,-4.524 h1
  text "60" at 27.178,3.048 h1
  text "57" at 24.638,-4.572 h1
  text "58" at 24.638,3.048 h1
  text "55" at 22.098,-4.572 h1
  text "56" at 22.098,3.048 h1
  text "53" at 19.558,-4.572 h1
  text "54" at 19.558,3.048 h1
  text "51" at 17.018,-4.144 h1
  text "52" at 17.018,3.048 h1
  text "49" at 14.478,-4.524 h1
  text "50" at 14.478,3.048 h1
  text "47" at 11.938,-4.572 h1
  text "48" at 11.938,3.048 h1
  text "45" at 9.398,-4.572 h1
  text "46" at 9.398,3.048 h1
  text "43" at 6.858,-4.572 h1
  text "44" at 6.858,3.048 h1
  text "41" at 4.318,-4.144 h1
  text "42" at 4.318,3.048 h1
  text "39" at 1.778,-4.524 h1
  text "40" at 1.778,3.048 h1
  text "37" at -0.762,-4.572 h1
  text "38" at -0.762,3.048 h1
  text "35" at -3.302,-4.572 h1
  text "36" at -3.302,3.048 h1
  text "33" at -5.842,-4.572 h1
  text "34" at -5.842,3.048 h1
  text "31" at -8.382,-4.144 h1
  text "32" at -8.382,3.048 h1
  text "29" at -10.922,-4.524 h1
  text "30" at -10.922,3.048 h1
  text "27" at -13.462,-4.572 h1
  text "28" at -13.462,3.048 h1
  text "25" at -16.002,-4.572 h1
  text "26" at -16.002,3.048 h1
  text "23" at -18.542,-4.572 h1
  text "24" at -18.542,3.048 h1
  text "21" at -21.082,-4.144 h1
  text "22" at -21.082,3.048 h1
  text "19" at -23.622,-4.367 h1
  text "20" at -23.622,3.048 h1
  text "17" at -26.162,-4.415 h1
  text "18" at -26.162,3.048 h1
  text "15" at -28.702,-4.415 h1
  text "16" at -28.702,3.048 h1
  text "13" at -31.242,-4.415 h1
  text "14" at -31.242,3.048 h1
  text "11" at -33.782,-3.986 h1
  text "12" at -33.782,3.048 h1
  text "9" at -36.322,-3.634 h1
  text "10" at -36.322,3.048 h1
  text "7" at -38.862,-3.682 h1
  text "8" at -38.862,3.048 h1
  text "5" at -41.402,-3.682 h1
  text "6" at -41.402,3.048 h1
  text "3" at -43.942,-3.682 h1
  text "4" at -43.942,3.048 h1
  text "1" at -46.482,-3.253 h1
  text "2" at -46.482,3.048 h1
  text "2" at -46.482,3.048 h1
  text "1" at -46.482,-3.253 h1
3D body "PIN.STEP": height 8.43, standoff -2.49, extent -48.26,0 -45.72,2.54
3D body "PIN_mid.STEP": height 8.43, standoff -2.49, extent 43.18,-2.54 45.72,0
3D body "PIN_mid.STEP": height 8.43, standoff -2.49, extent 40.64,-2.54 43.18,0
3D body "PIN_mid.STEP": height 8.43, standoff -2.49, extent 38.1,-2.54 40.64,0
3D body "PIN_mid.STEP": height 8.43, standoff -2.49, extent 35.56,-2.54 38.1,0
3D body "PIN_mid.STEP": height 8.43, standoff -2.49, extent 33.02,-2.54 35.56,0
3D body "PIN_mid.STEP": height 8.43, standoff -2.49, extent 30.48,-2.54 33.02,0
3D body "PIN_mid.STEP": height 8.43, standoff -2.49, extent 27.94,-2.54 30.48,0
3D body "PIN_mid.STEP": height 8.43, standoff -2.49, extent 25.4,-2.54 27.94,0
3D body "PIN_mid.STEP": height 8.43, standoff -2.49, extent 22.86,-2.54 25.4,0
3D body "PIN_mid.STEP": height 8.43, standoff -2.49, extent 20.32,-2.54 22.86,0
3D body "PIN_mid.STEP": height 8.43, standoff -2.49, extent 17.78,-2.54 20.32,0
3D body "PIN_mid.STEP": height 8.43, standoff -2.49, extent 15.24,-2.54 17.78,0
3D body "PIN_mid.STEP": height 8.43, standoff -2.49, extent 12.7,-2.54 15.24,0
3D body "PIN_mid.STEP": height 8.43, standoff -2.49, extent 10.16,-2.54 12.7,0
3D body "PIN_mid.STEP": height 8.43, standoff -2.49, extent 7.62,-2.54 10.16,0
3D body "PIN_mid.STEP": height 8.43, standoff -2.49, extent 5.08,-2.54 7.62,0
3D body "PIN_mid.STEP": height 8.43, standoff -2.49, extent 2.54,-2.54 5.08,0
3D body "PIN_mid.STEP": height 8.43, standoff -2.49, extent 0,-2.54 2.54,0
3D body "PIN_mid.STEP": height 8.43, standoff -2.49, extent -2.54,-2.54 0,0
3D body "PIN_mid.STEP": height 8.43, standoff -2.49, extent -5.08,-2.54 -2.54,0
3D body "PIN_mid.STEP": height 8.43, standoff -2.49, extent -7.62,-2.54 -5.08,0
3D body "PIN_mid.STEP": height 8.43, standoff -2.49, extent -10.16,-2.54 -7.62,0
3D body "PIN_mid.STEP": height 8.43, standoff -2.49, extent -12.7,-2.54 -10.16,0
3D body "PIN_mid.STEP": height 8.43, standoff -2.49, extent -15.24,-2.54 -12.7,0
3D body "PIN_mid.STEP": height 8.43, standoff -2.49, extent -17.78,-2.54 -15.24,0
3D body "PIN_mid.STEP": height 8.43, standoff -2.49, extent -20.32,-2.54 -17.78,0
3D body "PIN_mid.STEP": height 8.43, standoff -2.49, extent -22.86,-2.54 -20.32,0
3D body "PIN_mid.STEP": height 8.43, standoff -2.49, extent -25.4,-2.54 -22.86,0
3D body "PIN_mid.STEP": height 8.43, standoff -2.49, extent -27.94,-2.54 -25.4,0
3D body "PIN_mid.STEP": height 8.43, standoff -2.49, extent -30.48,-2.54 -27.94,0
3D body "PIN_mid.STEP": height 8.43, standoff -2.49, extent -33.02,-2.54 -30.48,0
3D body "PIN_mid.STEP": height 8.43, standoff -2.49, extent -35.56,-2.54 -33.02,0
3D body "PIN_mid.STEP": height 8.43, standoff -2.49, extent -38.1,-2.54 -35.56,0
3D body "PIN_mid.STEP": height 8.43, standoff -2.49, extent -40.64,-2.54 -38.1,0
3D body "PIN_mid.STEP": height 8.43, standoff -2.49, extent -43.18,-2.54 -40.64,0
3D body "PIN_mid.STEP": height 8.43, standoff -2.49, extent -45.72,-2.54 -43.18,0
3D body "PIN_mid.STEP": height 8.43, standoff -2.49, extent -45.72,0 -43.18,2.54
3D body "PIN_mid.STEP": height 8.43, standoff -2.49, extent 43.18,0 45.72,2.54
3D body "PIN_mid.STEP": height 8.43, standoff -2.49, extent 40.64,0 43.18,2.54
3D body "PIN_mid.STEP": height 8.43, standoff -2.49, extent 38.1,0 40.64,2.54
3D body "PIN_mid.STEP": height 8.43, standoff -2.49, extent 35.56,0 38.1,2.54
3D body "PIN_mid.STEP": height 8.43, standoff -2.49, extent 33.02,0 35.56,2.54
3D body "PIN_mid.STEP": height 8.43, standoff -2.49, extent 30.48,0 33.02,2.54
3D body "PIN_mid.STEP": height 8.43, standoff -2.49, extent 27.94,0 30.48,2.54
3D body "PIN_mid.STEP": height 8.43, standoff -2.49, extent 25.4,0 27.94,2.54
3D body "PIN_mid.STEP": height 8.43, standoff -2.49, extent 22.86,0 25.4,2.54
3D body "PIN_mid.STEP": height 8.43, standoff -2.49, extent 20.32,0 22.86,2.54
3D body "PIN_mid.STEP": height 8.43, standoff -2.49, extent 17.78,0 20.32,2.54
3D body "PIN_mid.STEP": height 8.43, standoff -2.49, extent 15.24,0 17.78,2.54
3D body "PIN_mid.STEP": height 8.43, standoff -2.49, extent 12.7,0 15.24,2.54
3D body "PIN_mid.STEP": height 8.43, standoff -2.49, extent 10.16,0 12.7,2.54
3D body "PIN_mid.STEP": height 8.43, standoff -2.49, extent 7.62,0 10.16,2.54
3D body "PIN_mid.STEP": height 8.43, standoff -2.49, extent 5.08,0 7.62,2.54
3D body "PIN_mid.STEP": height 8.43, standoff -2.49, extent 2.54,0 5.08,2.54
3D body "PIN_mid.STEP": height 8.43, standoff -2.49, extent 0,0 2.54,2.54
3D body "PIN_mid.STEP": height 8.43, standoff -2.49, extent -2.54,0 0,2.54
3D body "PIN_mid.STEP": height 8.43, standoff -2.49, extent -5.08,0 -2.54,2.54
3D body "PIN_mid.STEP": height 8.43, standoff -2.49, extent -7.62,0 -5.08,2.54
3D body "PIN_mid.STEP": height 8.43, standoff -2.49, extent -10.16,0 -7.62,2.54
3D body "PIN_mid.STEP": height 8.43, standoff -2.49, extent -12.7,0 -10.16,2.54
3D body "PIN_mid.STEP": height 8.43, standoff -2.49, extent -15.24,0 -12.7,2.54
3D body "PIN_mid.STEP": height 8.43, standoff -2.49, extent -17.78,0 -15.24,2.54
3D body "PIN_mid.STEP": height 8.43, standoff -2.49, extent -20.32,0 -17.78,2.54
3D body "PIN_mid.STEP": height 8.43, standoff -2.49, extent -22.86,0 -20.32,2.54
3D body "PIN_mid.STEP": height 8.43, standoff -2.49, extent -25.4,0 -22.86,2.54
3D body "PIN_mid.STEP": height 8.43, standoff -2.49, extent -27.94,0 -25.4,2.54
3D body "PIN_mid.STEP": height 8.43, standoff -2.49, extent -30.48,0 -27.94,2.54
3D body "PIN_mid.STEP": height 8.43, standoff -2.49, extent -33.02,0 -30.48,2.54
3D body "PIN_mid.STEP": height 8.43, standoff -2.49, extent -35.56,0 -33.02,2.54
3D body "PIN_mid.STEP": height 8.43, standoff -2.49, extent -38.1,0 -35.56,2.54
3D body "PIN_mid.STEP": height 8.43, standoff -2.49, extent -40.64,0 -38.1,2.54
3D body "PIN_mid.STEP": height 8.43, standoff -2.49, extent -43.18,0 -40.64,2.54
3D body "PIN.STEP": height 8.43, standoff -2.49, extent -48.26,-2.54 -45.72,0